# Altium footprint library teensy_pcb.PcbLib: 1 footprints
Each footprint in its own frame and in the unit in brackets; x right, y up, seen from the top. Pads: shape width x height; smd on the part's side, far side on the other; paste and mask are expansions set on the pad; w line width, h text height; cw(c..) or ccw(c..) is an arc to the next point about the centre after c.
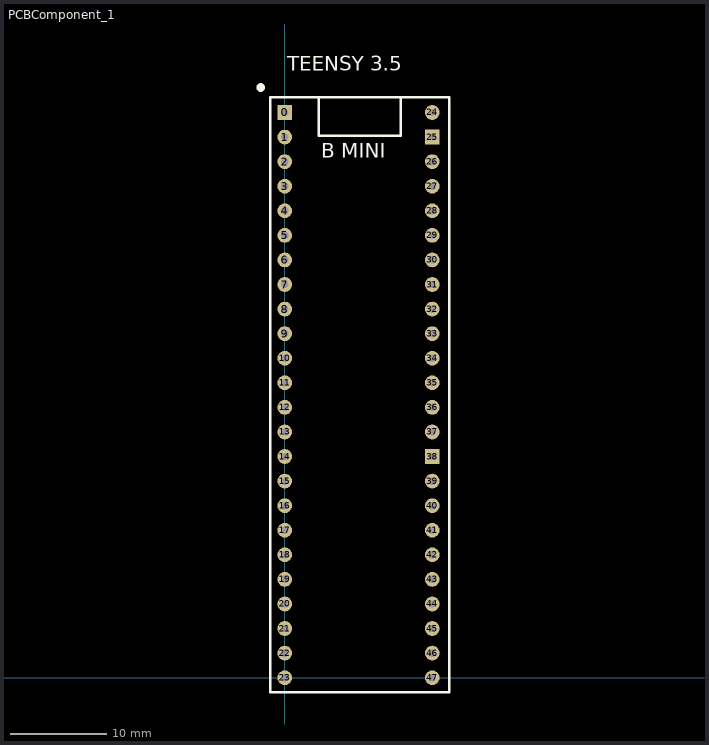
[diagram p0: the footprint, top view; thin cyan lines are the x and y axes]

## PCBComponent_1 [mil]
pads (48):
  rect 60x60 hole 30: 0(0,2300) 25(600,2200) 38(600,900)
  round 60 hole 30: 1(0,2200) 2(0,2100) 3(0,2000) 4(0,1900) 5(0,1800) 6(0,1700) 7(0,1600) 8(0,1500) 9(0,1400) 10(0,1300) 11(0,1200) 12(0,1100) 13(0,1000) 14(0,900) 15(0,800) 16(0,700) 17(0,600) 18(0,500) 19(0,400) 20(0,300) 21(0,200) 22(0,100) 23(0,0) 24(600,2300) 26(600,2100) 27(600,2000) 28(600,1900) 29(600,1800) 30(600,1700) 31(600,1600) 32(600,1500) 33(600,1400) 34(600,1300) 35(600,1200) 36(600,1100) 37(600,1000) 39(600,800) 40(600,700) 41(600,600) 42(600,500) 43(600,400) 44(600,300) 45(600,200) 46(600,100) 47(600,0)
Top Overlay:
  circle w19.68: c-98.43,2401.57 r7.87
  lines w10: 137.8,2362.2 137.8,2204.72 472.44,2204.72 472.44,2362.2 ; -59.06,-59.06 669.29,-59.06 669.29,2362.2 -59.06,2362.2 -59.06,-59.06
  text "B MINI" at 147.8,2116.3 h60
  text "TEENSY 3.5" at 10,2470.63 h60